# Altium footprint library CONNFLY.PcbLib: 24 footprints (part 1 of 2)
Each footprint in its own frame and in the unit in brackets; x right, y up, seen from the top. Pads: shape width x height; smd on the part's side, far side on the other; paste and mask are expansions set on the pad; w line width, h text height; cw(c..) or ccw(c..) is an arc to the next point about the centre after c.
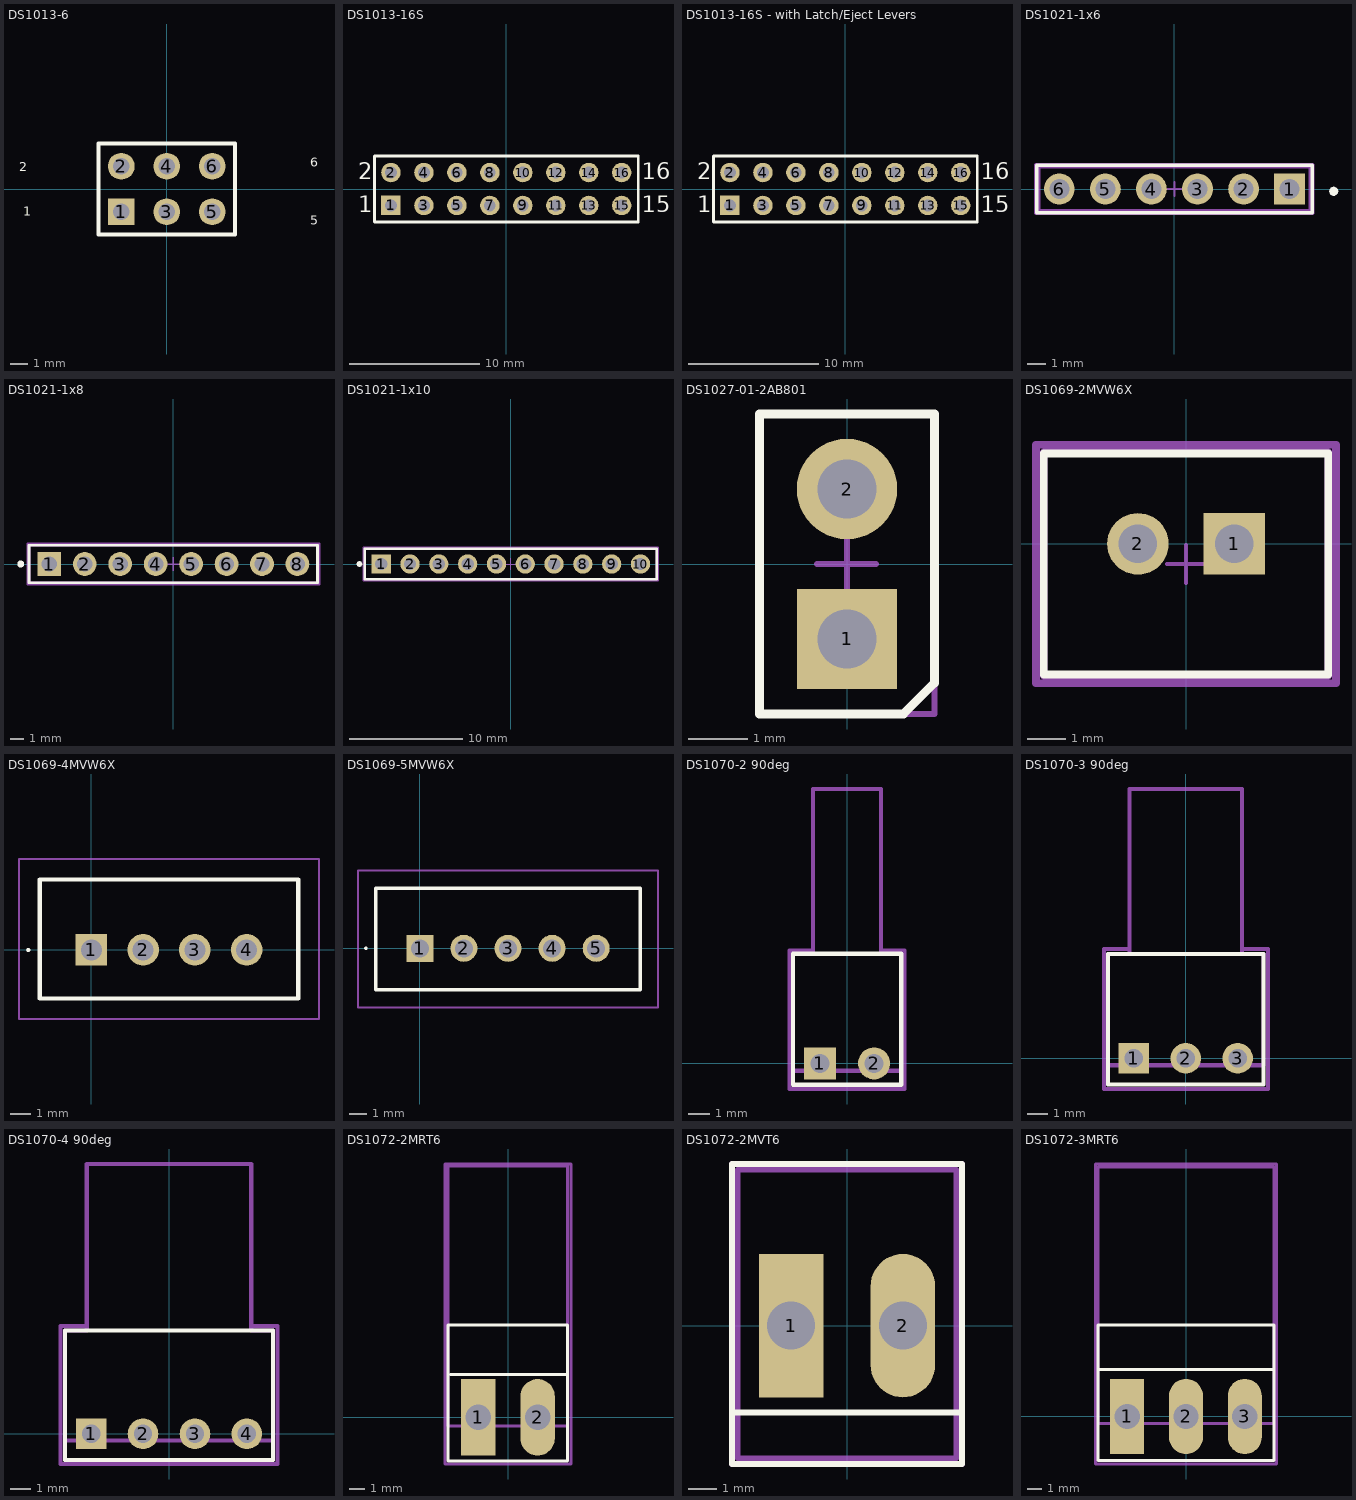
[diagram p0: the footprints below, top view; thin cyan lines are the x and y axes]

## DS1013-6 [mm] "Connector; Header; 3x2 Position"
pads (6):
  rect 1.5x1.5 hole 0.9: 1(-2.54,-1.27)
  round 1.5 hole 0.9: 2(-2.54,1.27) 3(0,-1.27) 4(0,1.27) 5(2.54,-1.27) 6(2.54,1.27)
Top Overlay:
  lines w0.2: -1.058,-2.54 3.81,-2.54 ; 3.81,-2.54 -3.81,-2.54 -3.81,2.54 3.81,2.54 3.81,-2.54
  text "1" at -8,-1.5 h0.5
  text "2" at -8.25,1 h0.5
  text "5" at 8,-2 h0.5
  text "6" at 8,1.25 h0.5
3D body "User Library-DS1013-6S (IDC-6MS CONNFLY).step": height 8.87, standoff -3.73, extent -7.71,-4.4 7.71,4.4

## DS1013-16S [mm]
pads (16):
  rect 1.5x1.5 hole 0.9: 1(-8.89,-1.27)
  round 1.5 hole 0.9: 2(-8.89,1.27) 3(-6.35,-1.27) 4(-6.35,1.27) 5(-3.81,-1.27) 6(-3.81,1.27) 7(-1.27,-1.27) 8(-1.27,1.27) 9(1.27,-1.27) 10(1.27,1.27) 11(3.81,-1.27) 12(3.81,1.27) 13(6.35,-1.27) 14(6.35,1.27) 15(8.89,-1.27) 16(8.89,1.27)
Top Overlay:
  lines w0.2: -10.16,-2.54 -10.16,2.54 10.16,2.54 10.16,-2.54 -10.16,-2.54
  text "2" at -11.43,0.762 h1.27
  text "1" at -11.43,-1.778 h1.27
  text "15" at 10.414,-1.778 h1.27
  text "16" at 10.414,0.762 h1.27
3D body "User Library-DS1013-16S (IDC-16MS CONNFLY).step": height 9, standoff -3.6, extent -14.06,-4.5 14.06,4.4

## DS1013-16S - with Latch/Eject Levers [mm]
pads (16):
  rect 1.5x1.5 hole 0.9: 1(-8.89,-1.27)
  round 1.5 hole 0.9: 2(-8.89,1.27) 3(-6.35,-1.27) 4(-6.35,1.27) 5(-3.81,-1.27) 6(-3.81,1.27) 7(-1.27,-1.27) 8(-1.27,1.27) 9(1.27,-1.27) 10(1.27,1.27) 11(3.81,-1.27) 12(3.81,1.27) 13(6.35,-1.27) 14(6.35,1.27) 15(8.89,-1.27) 16(8.89,1.27)
Top Overlay:
  lines w0.2: -10.16,-2.54 -10.16,2.54 10.16,2.54 10.16,-2.54 -10.16,-2.54
  text "2" at -11.43,0.762 h1.27
  text "1" at -11.43,-1.778 h1.27
  text "15" at 10.414,-1.778 h1.27
  text "16" at 10.414,0.762 h1.27
3D body "User Library-LP16VEJ.STEP": height 25.84, standoff -3.2, extent -19.9,-4.25 20,4.25

## DS1021-1x6 [mm]
pads (6):
  rect 1.7x1.7 hole 1.1 paste-2539.97 mask+0: 1(6.35,0)
  round 1.7 hole 1.1 paste-2539.97 mask+0: 2(3.81,0) 3(1.27,0) 4(-1.27,0) 5(-3.81,0) 6(-6.35,0)
Top Overlay:
  circle w0.25: c8.78,-0.125 r0.125
  lines w0.2: -7.6,-1.3 -7.6,1.3 7.6,1.3 7.6,-1.3 -7.6,-1.3
Mechanical 10:
  lines w0.2: -7.634,-1.332 -7.634,1.332 7.634,1.332 7.634,-1.332 -7.634,-1.332
  text ".Designator" at 0,0 h1
Mechanical 12:
  lines w0.15: -7.47,-1.168 -7.47,1.2 7.47,1.2 7.47,-1.168 -7.47,-1.168
Mechanical 15:
  lines w0.1: -0.4,0 0.4,0 ; 0,-0.4 0,0.4
  lines w0.2: -7.634,-1.332 -7.634,1.332 7.634,1.332 7.634,-1.332 -7.634,-1.332
3D body "3dmodel.step": height 10.03, standoff -2.79, extent -7.47,-1.168 7.47,1.168

## DS1021-1x8 [mm]
pads (8):
  rect 1.7x1.7 hole 1.1 paste-2539.97 mask+0: 1(-8.89,0)
  round 1.7 hole 1.1 paste-2539.97 mask+0: 2(-6.35,0) 3(-3.81,0) 4(-1.27,0) 5(1.27,0) 6(3.81,0) 7(6.35,0) 8(8.89,0)
Top Overlay:
  circle w0.25: c-10.935,0 r0.125
  lines w0.2: -10.335,-1.345 -10.335,1.345 10.335,1.345 10.335,-1.345 -10.335,-1.345
Mechanical 10:
  lines w0.2: -10.435,-1.445 -10.435,1.445 10.435,1.445 10.435,-1.445 -10.435,-1.445
  text ".Designator" at 0,0.188 h1
Mechanical 12:
  lines w0.2: -10.335,-1.345 -10.335,1.345 10.335,1.345 10.335,-1.345 -10.335,-1.345
Mechanical 15:
  lines w0.1: -0.5,0 0.5,0 ; 0,-0.5 0,0.5
  lines w0.2: -10.435,-1.445 -10.435,1.445 10.435,1.445 10.435,-1.445 -10.435,-1.445
3D body "Conn_Würth_Elektronik_61300811121_eec.STEP": height 0.25, standoff 0, extent -10.435,-1.445 10.435,1.445

## DS1021-1x10 [mm]
pads (10):
  rect 1.7x1.7 hole 1.1 paste-2539.97 mask+0: 1(-11.43,0)
  round 1.7 hole 1.1 paste-2539.97 mask+0: 2(-8.89,0) 3(-6.35,0) 4(-3.81,0) 5(-1.27,0) 6(1.27,0) 7(3.81,0) 8(6.35,0) 9(8.89,0) 10(11.43,0)
Top Overlay:
  circle w0.25: c-13.35,0 r0.125
  lines w0.2: -12.875,-1.345 -12.875,1.345 12.875,1.345 12.875,-1.345 -12.875,-1.345
Mechanical 10:
  lines w0.2: -12.975,-1.445 -12.975,1.445 12.975,1.445 12.975,-1.445 -12.975,-1.445
  text ".Designator" at 0,0.188 h1
Mechanical 12:
  lines w0.2: -12.875,-1.345 -12.875,1.345 12.875,1.345 12.875,-1.345 -12.875,-1.345
Mechanical 15:
  lines w0.1: -0.5,0 0.5,0 ; 0,-0.5 0,0.5
  lines w0.2: -12.975,-1.445 -12.975,1.445 12.975,1.445 12.975,-1.445 -12.975,-1.445
3D body "Conn_Wurth_Elektronik_61301011121_eec.STEP": height 0.25, standoff 0, extent -12.975,-1.445 12.975,1.445

## DS1027-01-2AB801 [mm]
pads (2):
  rect 1.7x1.7 hole 1: 1(0,-1.27)
  round 1.7 hole 1: 2(0,1.27)
Top Overlay:
  lines w0.15: -1.48,-2.54 -1.48,2.54 1.48,2.54 1.48,-2.015 0.955,-2.54 -1.48,-2.54
Mechanical 15:
  lines w0.1: -0.508,0 0.492,0 ; 0,-0.475 0,0.525 ; -1.48,-2.54 -1.48,2.54 1.48,2.54 1.48,-2.54 -1.48,-2.54
3D body "jumper_akspt_z-black.stp": height 8.87, standoff 2.9, extent -1.228,-2.49 1.212,2.49
3D body "Samtec-TSW-102-23-F-S.step": height 8.38, standoff -2.92, extent -1.27,-2.54 1.27,2.54

## DS1069-2MVW6X [mm]
pads (2):
  rect 1.6x1.6 hole 1 paste-2539.97 mask+0: 1(1.25,0)
  round 1.6 hole 1 paste-2539.97 mask+0: 2(-1.25,0)
Top Overlay:
  lines w0.2: -3.7,-3.4 3.7,-3.4 3.7,2.35 -3.7,2.35 -3.7,-3.4
Mechanical 13:
  lines w0.2: -3.7,-3.425 3.7,-3.425 3.7,2.375 -3.7,2.375 -3.7,-3.425
Mechanical 15:
  lines w0.1: -0.5,-0.525 0.5,-0.525 ; 0,-1.025 0,-0.025
  lines w0.2: -3.9,-3.625 3.9,-3.625 3.9,2.575 -3.9,2.575 -3.9,-3.625
3D body "User Library-B2B-XH-A.STEP": height 7, standoff -3.4, extent -3.7,-3.417 3.7,2.333

## DS1069-4MVW6X [mm]
pads (4):
  rect 1.53x1.53 hole 1.02: 1(0,0)
  round 1.53 hole 1.02: 2(2.5,0) 3(5,0) 4(7.5,0)
Top Overlay:
  lines w0.1: -3.1,0 cw(c-3.05,0) -3,0 cw(c-3.05,0) -3.1,0
  lines w0.2: -2.5,-2.35 -2.5,3.4 10,3.4 10,-2.35 -2.5,-2.35
Mechanical 13:
  lines w0.1: -2.5,-2.35 -2.5,3.4 10,3.4 10,-2.35 -2.5,-2.35
Mechanical 15:
  lines w0.1: -3.5,-3.35 -3.5,4.4 11,4.4 11,-3.35 -3.5,-3.35
3D body "DS1069-4 CWF-4.stp": height 7, standoff -3.5, extent -2.5,-2.3 10,3.45

## DS1069-5MVW6X [mm]
pads (5):
  rect 1.53x1.53 hole 1.02: 1(0,0)
  round 1.53 hole 1.02: 2(2.5,0) 3(5,0) 4(7.5,0) 5(10,0)
Top Overlay:
  lines w0.1: -3.1,0 ccw(c-3.05,0) -3,0 ccw(c-3.05,0) -3.1,0
  lines w0.2: -2.5,-2.35 12.5,-2.35 12.5,3.4 -2.5,3.4 -2.5,-2.35
Mechanical 13:
  lines w0.1: -2.5,-2.35 12.5,-2.35 12.5,3.4 -2.5,3.4 -2.5,-2.35
Mechanical 15:
  lines w0.1: -3.5,-3.35 13.5,-3.35 13.5,4.4 -3.5,4.4 -3.5,-3.35
3D body "DS1069-5 CWF-5.stp": height 7, standoff -3.5, extent -2.5,-2.3 12.5,3.45

## DS1070-2 90deg [mm] "connfly electronic CO,.LTD."
pads (2):
  rect 1.5x1.5 hole 0.9: 1(-1.27,0)
  round 1.5 hole 0.9: 2(1.27,0)
Top Overlay:
  lines w0.2: -2.539,-1 2.54,-1 2.54,5.15 -2.539,5.15 -2.539,-1
Mechanical 10:
  lines w0.2: -2.539,-0.35 2.54,-0.35 2.54,5.15 1.601,5.15 1.601,12.875 -1.6,12.875 -1.6,5.15 -2.539,5.15 -2.539,-0.35 -2.54,-0.35
Mechanical 15:
  lines w0.2: -2.7,-1.2 -2.7,5.3 -1.6,5.3 -1.6,12.875 1.6,12.875 1.6,5.3 2.7,5.3 2.7,-1.2 -2.7,-1.2
3D body "User Library-WF-2R.step": height 5.8, standoff -3.4, extent -2.54,-0.35 2.54,12.85

## DS1070-3 90deg [mm] "Connector; Header; 3 Position"
pads (3):
  rect 1.5x1.5 hole 0.9: 1(-2.54,0)
  round 1.5 hole 0.9: 2(0,0) 3(2.54,0)
Top Overlay:
  lines w0.2: -3.81,-1.27 -3.81,5.125 3.81,5.125 3.81,-1.27 -3.81,-1.27
Mechanical 10:
  lines w0.2: -3.81,-0.335 -3.81,5.125 -2.75,5.125 -2.75,13.2 2.752,13.2 2.752,5.125 3.81,5.125 3.81,-0.335 -3.81,-0.335
Mechanical 15:
  lines w0.2: -4,-1.5 -4,5.35 -2.75,5.35 -2.75,13.2 2.75,13.2 2.75,5.35 4.025,5.35 4.025,5.275 4.025,-1.5 -4,-1.5
3D body "61900311021.stp": height 5.9, standoff -3.3, extent -3.81,-0.335 3.81,13.185

## DS1070-4 90deg [mm] "Connector; Header; 4 Position"
pads (4):
  rect 1.5x1.5 hole 0.9: 1(-3.81,0)
  round 1.5 hole 0.9: 2(-1.27,0) 3(1.27,0) 4(3.81,0)
Top Overlay:
  lines w0.2: -5.08,-1.27 5.08,-1.27 5.08,5.05 -5.08,5.05 -5.08,-1.27
Mechanical 10:
  lines w0.2: -5.08,-0.325 -5.08,5.05 -4.025,5.05 -4.025,13.2 4.025,13.2 4.025,5.05 5.08,5.05 5.08,-0.325 -5.08,-0.325
Mechanical 15:
  lines w0.2: -5.3,-1.475 5.3,-1.475 5.3,5.275 4.025,5.275 4.025,13.2 -4.025,13.2 -4.025,5.275 -5.3,5.275 -5.3,-1.475
3D body "61900411021.stp": height 5.9, standoff -3.3, extent -5.08,-0.325 5.08,13.195

## DS1072-2MRT6 [mil] "connfly electronic CO,.LTD."
pads (2):
  rect 90x200 hole 66.93: 1(-77.5,0)
  oval 90x200 hole 66.93: 2(77.5,0)
Top Overlay:
  lines w7.87: -150.53,112.2 154.47,112.2 ; -156.5,-114.17 155.51,-114.17 155.51,241.14 -156.5,241.14 -156.5,-114.17
Mechanical 10:
  lines w7.87: -156.5,-22.64 -156.5,657.21 155.91,657.21 155.91,-22.64 -155.91,-22.64 -156.5,-22.64
Mechanical 15:
  lines w7.87: -165.35,-122.05 -165.35,662.4 165.35,662.4 165.35,-122.05 -165.35,-122.05
3D body "User Library-PWL-2R.step": height 411.42, standoff -143.7, extent -155.91,-22.64 155.91,657.21

## DS1072-2MVT6 [mm] "connfly electronic CO,.LTD."
pads (2):
  rect 2.286x5.08 hole 1.7: 1(-1.98,0)
  oval 2.286x5.08 hole 1.7: 2(1.98,0)
Top Overlay:
  lines w0.2: -3.98,-3.075 4.025,-3.075 ; -4.075,-4.9 -4.075,5.725 4.075,5.725 4.075,-4.9 -4.075,-4.9
Mechanical 13:
  lines w0.2: -3.875,-4.7 -3.875,5.525 3.875,5.525 3.875,-4.7 -3.875,-4.7
Mechanical 15:
  lines w0.2: -4.075,-4.9 4.075,-4.9 4.075,5.725 -4.075,5.725 -4.075,-4.9
3D body "User Library-PWL-2.step": height 13.85, standoff -3.55, extent -3.96,-4.8 3.96,5.6

## DS1072-3MRT6 [mm] "connfly electronic CO,.LTD."
pads (3):
  rect 2.286x5.08 hole 1.7: 1(-3.96,0)
  oval 2.286x5.08 hole 1.7: 2(0,0) 3(3.96,0)
Top Overlay:
  lines w0.2: -5.94,3.175 5.94,3.178 ; -5.94,-2.975 -5.94,6.175 5.94,6.175 5.94,-2.975 -5.94,-2.975
Mechanical 13:
  lines w0.2: -5.94,-0.484 5.94,-0.484 5.94,16.784 -5.94,16.784 -5.94,-0.484
Mechanical 15:
  lines w0.2: -6.1,-3.2 -6.1,17 6.1,17 6.1,-3.2 -6.1,-3.2
3D body "User Library-PWL-3R.step": height 10.45, standoff -3.65, extent -5.94,-0.484 5.94,16.784